# EAGLE library part NE5532 (library NE5532)
Source : http://www.ti.com/lit/ds/symlink/ne5532.pdf
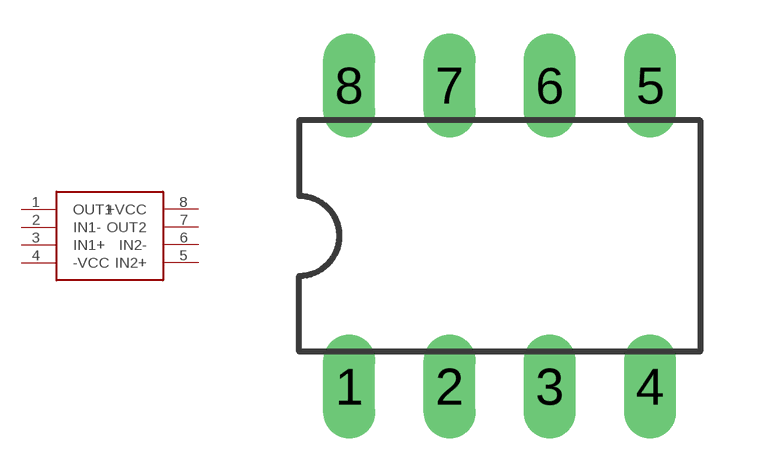
[diagram p0: symbol with the pads of DIL08; footprint DIL08]

Designator prefix IC

## NE5532  [DIL08]
1  OUT1
2  IN1-
3  IN1+
4  -VCC  pwr
5  IN2+
6  IN2-
7  OUT2
8  +VCC  pwr

## Footprint DIL08 (pad centres in mm)
drill 0.813 long: 1 -3.81,-3.81; 2 -1.27,-3.81; 3 1.27,-3.81; 4 3.81,-3.81; 5 3.81,3.81; 6 1.27,3.81; 7 -1.27,3.81; 8 -3.81,3.81